# Altium schematic symbol library AUIRF4905.SchLib: 1 symbol
Pins are listed as number, name and electrical type; pins without a type are passive.

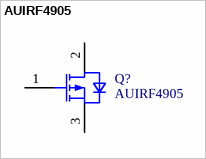
[diagram p0: symbol AUIRF4905]

## AUIRF4905
designator Q?
OptiMOS - P2 Power-Transistor, P-channel-Enhancement mode, VDS -30V; Manufacturer: Infineon Technologies; Manufacturer Order NumberManufacturer Order Number: AUIRF4905; PackageReference: PG-TO220-3-1
pins: 1 GATE, 2 DRAIN, 3 SOURCE